# EAGLE library part IMU_MPU-6050 (library parts_v25)
IMUs - Inertial Measurement Units 6-Axis MEMS MotionTracking Device with DMP Source: Datasheet <https://www.mouser.mx/datasheet/2/400/MPU-6000-Datasheet1-1112286.pdf>
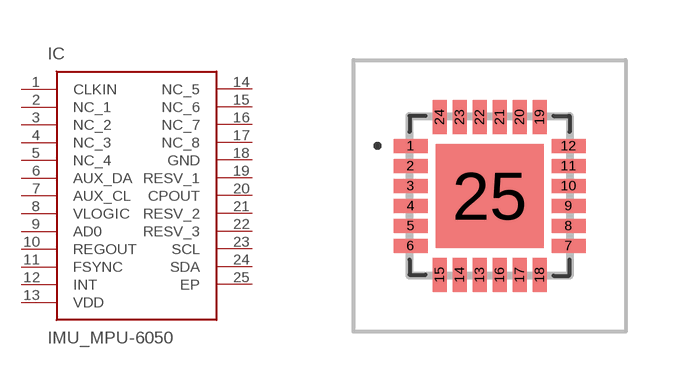
[diagram p2: symbol with the pads of MPU6050; footprint MPU6050]

Designator prefix IC

## IMU_MPU-6050 (DESCRIPTION: IMUs - Inertial Measurement Units 6-Axis MEMS MotionTracking Device with DMP; HEIGHT: 3mm; MANUFACTURER_NAME: TDK; MANUFACTURER_PART_NUMBER: MPU-6050; MOUSER_PART_NUMBER: 410-MPU-6050)  [MPU6050]
1  CLKIN
2  NC_1
3  NC_2
4  NC_3
5  NC_4
6  AUX_DA
7  AUX_CL
8  VLOGIC
9  AD0
10  REGOUT
11  FSYNC
12  INT
13  VDD
14  NC_5
15  NC_6
16  NC_7
17  NC_8
18  GND
19  RESV_1
20  CPOUT
21  RESV_2
22  RESV_3
23  SCL
24  SDA
25  EP

## Footprint MPU6050 (pad centres in mm)
MPU-6050-5
smd 0.85 x 0.35: 1 -1.975,1.25; 2 -1.975,0.75; 3 -1.975,0.25; 4 -1.975,-0.25; 5 -1.975,-0.75; 6 -1.975,-1.25; 7 1.975,-1.25; 8 1.975,-0.75; 9 1.975,-0.25; 10 1.975,0.25; 11 1.975,0.75; 12 1.975,1.25
smd 0.35 x 0.85: 13 -0.25,-1.975; 14 -0.75,-1.975; 15 -1.25,-1.975; 16 0.25,-1.975; 17 0.75,-1.975; 18 1.25,-1.975; 19 1.25,1.975; 20 0.75,1.975; 21 0.25,1.975; 22 -0.25,1.975; 23 -0.75,1.975; 24 -1.25,1.975
smd 2.7 x 2.6: 25 0,0